# EAGLE library part 4607X (library resistor-sip)
Bourns 4600X Series - Thick Film Conformal SIPs 4607X-101 Resistor Network Configuration: 101 (Bussed Resistors) Resistance range: 10 ohms to 10 Megaohms Maximum Operating Voltage: 100V Source: http://www.bourns.com/ProductLine.aspx?name=standard_thick_film_networks PDF: http://www.bourns.com/data/global/pdfs/4600X.pdf
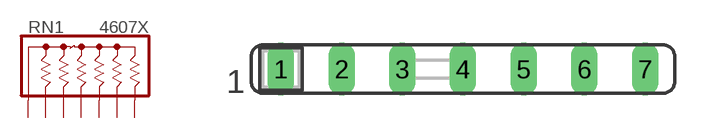
[diagram p2: symbol with the pads of SIP7; footprint SIP7]

Designator prefix RN1

## 4607X  [SIP7]
1  1  pas
2  2  pas
3  3  pas
4  4  pas
5  5  pas
6  6  pas
7  7  pas

## Footprint SIP7 (pad centres in mm)
Bourns 4607X-101 Resistor Network Source: http://www.bourns.com/data/global/pdfs/4600X.pdf
drill 0.6 long: 1 -6.35,0; 2 -3.81,0; 3 -1.27,0; 4 1.27,0; 5 3.81,0; 6 6.35,0; 7 8.89,0